# Altium schematic symbol library All Components.SchLib: 25 symbols
Pins are listed as number, name and electrical type; pins without a type are passive.

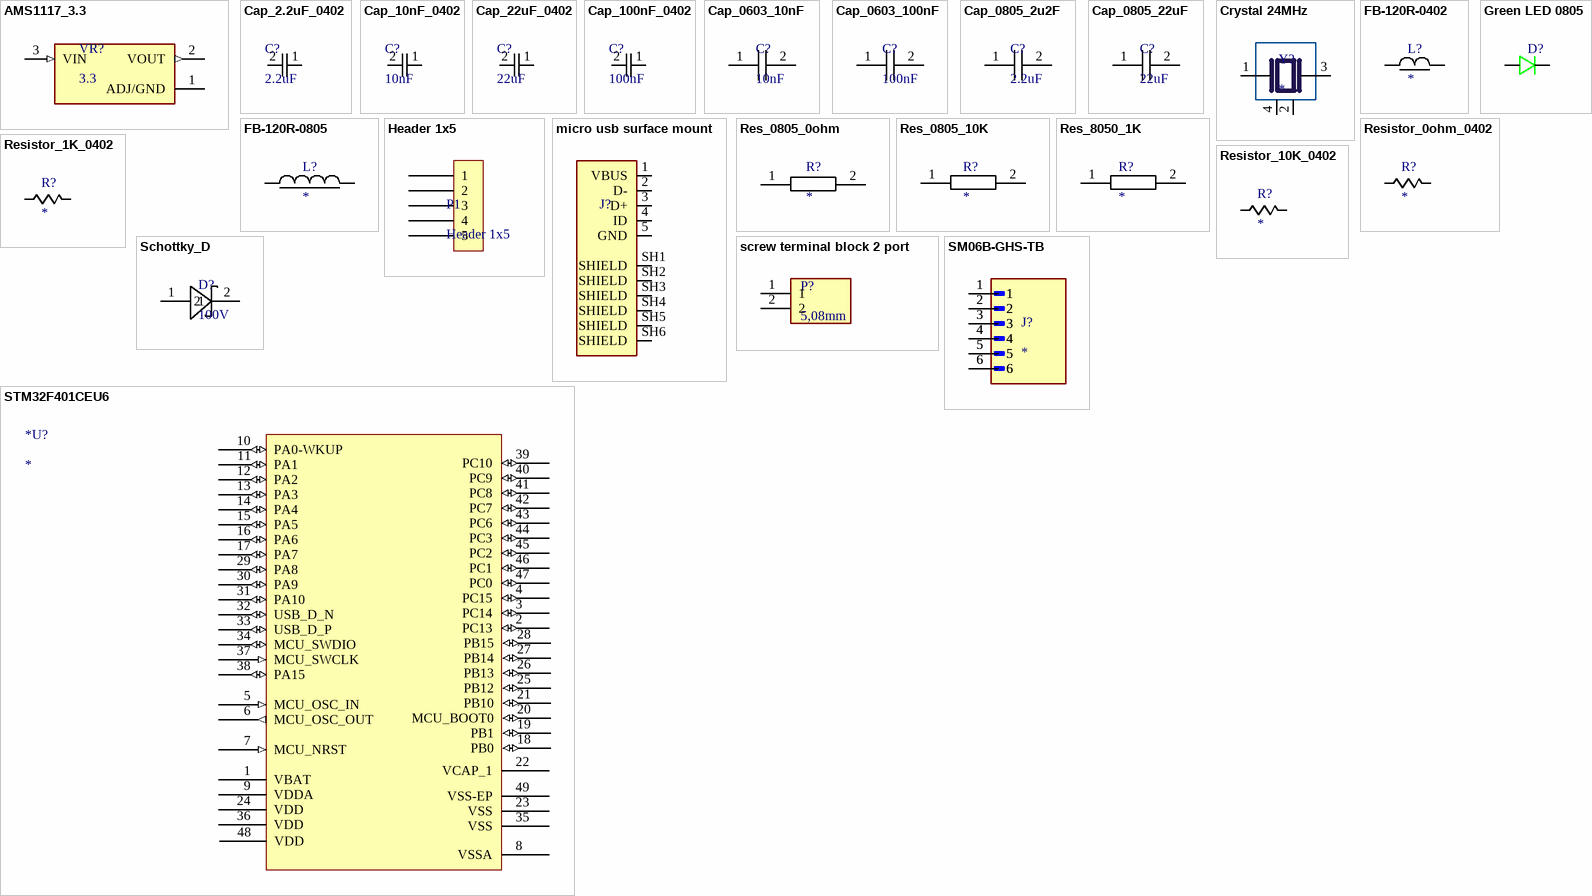
[diagram p0: symbols AMS1117_3.3 to STM32F401CEU6]

## AMS1117_3.3
designator VR?, comment 3.3
72dB@(120Hz) 1A Fixed 3.3V Positive 16V SOT-223 Voltage Regulators - Linear, Low Drop Out (LDO) Regulators ROHS; Manufacturer: Advanced Monolithic Systems; Mfr. Part #: AMS1117-3.3; Splr.part#: C6186; Supplier: LCSC; ComponentLink1Description: New link; ComponentLink1URL: https://www.lcsc.com/product-detail/C6186.html?s_z=n_ASM1117
footprint SOT229P700X180-4N
pins: 1 ADJ/GND (power), 2 VOUT (out), 3 VIN (in)

## Cap_2.2uF_0402
designator C?, comment 2.2uF
CAP CER 2.2uF 16V X5R 0402; Manufacturer: Samsung Electro-Mechanics; Manufacturer Part #: CL05A225KO5NQNC; Supplier: LCSC; Supplier Part#: C170151; ComponentLink1Description: Data Sheet; ComponentLink1URL: https://www.lcsc.com/datasheet/C170151.pdf?spm=wm.sxq.inf.ggs___wm.fly.bg.3.stp&lcsc_vid=T1MKV1cAE1gLBAVfTgIKUgJfTlkPBQBVQlMMBAJURwAxVlNeT1dfVlxVQ1ReXzsOAxUeFF5JWBYZEEoKFBINSQcJGk4%3D
footprint CAPC1005X55N
pins: 1, 2

## Cap_10nF_0402
designator C?, comment 10nF
CAP CER 10nF 50V X7R 0402; Manufacturer: Samsung Electro-Mechanics; Manufacturer Part #: CL05B103KB5NNNC; Supplier: LCSC; Supplier Part#: C15195; ComponentLink1Description: Data Sheet; ComponentLink1URL: https://www.lcsc.com/datasheet/C15195.pdf?spm=wm.sxq.inf.ggs___wm.fly.bg.2.stp&lcsc_vid=T1MKV1cAE1gLBAVfTgIKUgJfTlkPBQBVQlMMBAJURwAxVlNeT1dfVlxVQ1ReXzsOAxUeFF5JWBYZEEoKFBINSQcJGk4%3D
footprint CAPC1005X55N
pins: 1, 2

## Cap_22uF_0402
designator C?, comment 22uF
CAP CER 22uF 6.3V X5R 0402; Manufacturer: Samsung Electro-Mechanics; Manufacturer Part #: CL05A226MQ5QUNC; Supplier: LCSC; Supplier Part#: C105226; ComponentLink1Description: Data Sheet; ComponentLink1URL: https://www.lcsc.com/datasheet/C105226.pdf?spm=wm.sxq.inf.ggs___wm.fly.bg.3.stp&lcsc_vid=T1MKV1cAE1gLBAVfTgIKUgJfTlkPBQBVQlMMBAJURwAxVlNeT1dfVlxVQ1ReXzsOAxUeFF5JWBYZEEoKFBINSQcJGk4%3D
footprint CAPC1005X55N
pins: 1, 2

## Cap_100nF_0402
designator C?, comment 100nF
CAP CER 100nF 16V X7R 0402; Manufacturer: Samsung Electro-Mechanics; Manufacturer Part #: CL05B104KO5NNNC; Supplier: LCSC; Supplier Part#: C1525; ComponentLink1Description: Data Sheet; ComponentLink1URL: https://www.lcsc.com/datasheet/C1525.pdf?spm=wm.sxq.inf.ggs___wm.fly.bg.1.stp&lcsc_vid=T1MKV1cAE1gLBAVfTgIKUgJfTlkPBQBVQlMMBAJURwAxVlNeT1dfVlxVQ1ReXzsOAxUeFF5JWBYZEEoKFBINSQcJGk4%3D
footprint CAPC1005X55N
pins: 1, 2

## Cap_0603_10nF
designator C?, comment 10nF
CAP CER 10pF 50V C0G 0603; Manufacturer: Samsung Electro-Mechanics; Manufacturer Part#: CL10C100JB8NNNC; Supplier: LCSC; Supplier Part#: C1634; ComponentLink1Description: Data Sheet; ComponentLink1URL: https://www.lcsc.com/datasheet/C1634.pdf?spm=wm.sxq.inf.ggs___wm.fly.bg.0.stp&lcsc_vid=E1QPAlFSFlQNAwEAEQJdBlJfE1hWVlFUQlIPUgAERAIxVlNeQFNcV1NSTlNaUDsOAxUeFF5JWBYZEEoKFBINSQcJGk4%3D
footprint CAPC2012X140N
pins: 1, 2

## Cap_0603_100nF
designator C?, comment 100nF
CAP CER 100nF 50V X7R 0603; Manufacturer: Samsung Electro-Mechanics; Manufacturer Part#: CL10B104KB8NNNC; Supplier: LCSC; Supplier Part#: C1591; ComponentLink1Description: Data Sheet; ComponentLink1URL: https://www.lcsc.com/datasheet/C1591.pdf?spm=wm.sxq.inf.ggs___wm.fly.bg.4.stp&lcsc_vid=RlgPBF0EEVEPX1ZVRAVZVwcHRVJaBVJSTlNXAgBWFlkxVlNeQFFbX1RVRFRaVTsOAxUeFF5JWBYZEEoBGA4JCwFIFA4DSA%3D%3D
footprint CAPC2012X140N
pins: 1, 2

## Cap_0805_2u2F
designator C?, comment 2.2uF
CAP CER 2.2uF 16V X7R 0805; Manufacturer: Samsung Electro-Mechanics; Manufacturer Part#: CL21B225KOFNNNE; Supplier: LCSC; Supplier Part#: C28234; ComponentLink1Description: Data Sheet; ComponentLink1URL: https://www.lcsc.com/datasheet/C28234.pdf?spm=wm.sxq.inf.ggs___wm.fly.bg.7.stp&lcsc_vid=RlgPBF0EEVEPX1ZVRAVZVwcHRVJaBVJSTlNXAgBWFlkxVlNeQFFbX1RVRFRaVTsOAxUeFF5JWBYZEEoBGA4JCwFIFA4DSA%3D%3D
footprint CAPC2012X140N
pins: 1, 2

## Cap_0805_22uF
designator C?, comment 22uF
CAP CER 22uF 25V X5R 0805; Manufacturer: Samsung Electro-Mechanics; Manufacturer Part#: CL21A226MAYNNNE; Supplier: LCSC; Supplier Part#: C602037; ComponentLink1Description: Data Sheet; ComponentLink1URL: https://www.lcsc.com/datasheet/C602037.pdf?spm=wm.sxq.inf.ggs___wm.fly.bg.2.stp&lcsc_vid=EVYPBVRQTlZbUwYCRFgKAVAHE1INAl1VRwJdBFRRElcxVlNeQFNcU1JRTlFdXzsOAxUeFF5JWBYZEEoKFBINSQcJGk4dAgUUFAk%3D
footprint CAPC2012X140N
pins: 1, 2

## Crystal 24MHz
designator Y?
YXC Crystal Oscillators XL7EL89CKI-111YLC-24M; Manufacturer Part#: SMD2016-4P; Manufacturer: YXC Crystal Oscillators; Supplier: LCSC; Supplier Part#: C2965580; ComponentLink1Description: Data Sheet; ComponentLink1URL: https://www.lcsc.com/datasheet/C2965580.pdf?spm=wm.sxq.inf.ggs___wm.fly.bg.0.stp&lcsc_vid=EVYPBVRQTlZbUwYCRFgKAVAHE1INAl1VRwJdBFRRElcxVlNeQFNdUFxSTldXXjsOAxUeFF5JWBYZEEoKFBINSQcJGk4dAgUUFAk%3D
footprint XTAL_C7S-24.000-12-3030-X-R
pins: 1, 2 (power), 3 2, 4 (power)

## FB-120R-0402
designator L?
FERRITE BEAD 120Ω 0402; Manufacturer: KOHERelec; Manufacturer Part#: FBHA0402-121-202R; Supplier: LCSC; Supplier Part#: C41355350; ComponentLink1Description: Data Sheet; ComponentLink1URL: https://www.lcsc.com/datasheet/C41355350.pdf?spm=wm.sxq.inf.ggs___wm.fly.bg.5.stp&lcsc_vid=T1MKV1cAE1gLBAVfTgIKUgJfTlkPBQBVQlMMBAJURwAxVlNeT1dcVldXR1JYUjsOAxUeFF5JWBYZEEoKFBINSQcJGk4NBhADEA4cHktXRlZeSQwSGg0%3D
footprint RESC1005X40N
pins: 1, 2

## FB-120R-0805
designator L?
FERRITE BEAD 120Ω 0805 1LN; Manufacturer: ZE; Manufacturer Part#: ZECB201209A121-4A000; Supplier: LCSC; Supplier Part#: C2943443; ComponentLink1Description: Data Sheet; ComponentLink1URL: https://www.lcsc.com/datasheet/C2943443.pdf?spm=wm.sxq.inf.ggs___wm.fly.bg.0.stp&lcsc_vid=EVYPBVRQTlZbUwYCRFgKAVAHE1INAl1VRwJdBFRRElcxVlNeQFNcUldWRlRYVDsOAxUeFF5JWBYZEEoKFBINSQcJGk4NBhADEA4cHktXRllfSQwSGg0%3D
footprint RESC2012X06N (Chip Resistor, 2-Leads, Body 2.00x1.25mm, IPC Medium Density)
pins: 1, 2

## Green LED 0805
designator D?
LED GREEN 0805 SMD; Manufacturer: NATIONSTAR; Manufacturer Part#: NCD0805G1; Supplier: LCSC; Supplier Part#: C84260; ComponentLink1Description: Data Sheet; ComponentLink1URL: https://www.lcsc.com/datasheet/C84260.pdf?spm=wm.sxq.inf.ggs___wm.fly.bg.0.stp&lcsc_vid=FVIKU1JeEVJYVVVSQVdZUQJSQlYKVAJXRwQLV1VXQlYxVlNeQVdfUV1TQ1ReXzsOAxUeFF5JWBYZEEoKFBINSQcJGk4NBhADEA4cHktXRlVcSQwSGg0%3D
footprint LED_APT2012MGC
pins: A, C

## Header 1x5
designator P1
footprint Header 1x5 male (2.54mm)
pins: 1, 2, 3, 4, 5

## micro usb surface mount
designator J?
MICRO USB, TYPE B,; Manufacturer: HMTCONN; Manufacturer Part#: HMT-MICRO USB 4P; Supplier: LCSC; Supplier Part#: C53121381; ComponentLink1Description: Data Sheet; ComponentLink1URL: https://www.lcsc.com/datasheet/C53121381.pdf?spm=wm.sxq.inf.ggs___wm.ssy.bg.2.stp&lcsc_vid=RlgPBF0EEVEPX1ZVRAVZVwcHRVJaBVJSTlNXAgBWFlkxVlNeQFFbX1NTQ1dfVzsOAxUeFF5JWBYZEEoKFBINSQcJGk4eFQsCAgIaSgADAwAHC0slT1VdUFJIHxUDCw%3D%3D
footprint TE_1981568-1
pins: 1 VBUS, 2 D-, 3 D+, 4 ID, 5 GND, SH1 SHIELD, SH2 SHIELD, SH3 SHIELD, SH4 SHIELD, SH5 SHIELD, SH6 SHIELD

## Res_0805_0ohm
designator R?
RES 0Ω ±1% 125mW 0805; Manufacturer: UNI-ROYAL; Manufacturer Part#: 0805W8F0000T5E; Supplier: LCSC; Supplier Part#: C17477; ComponentLink1Description: Data sheet; ComponentLink1URL: https://www.lcsc.com/datasheet/C17477.pdf?spm=wm.sxq.inf.ggs___wm.fly.bg.9.stp&lcsc_vid=EVYPBVRQTlZbUwYCRFgKAVAHE1INAl1VRwJdBFRRElcxVlNeQFNcU1RTTlNXXzsOAxUeFF5JWBYZEEoKFBINSQcJGk4NBhADEA4cHktXRlhXSQwSGg0%3D
footprint RESC2012X06N (Chip Resistor, 2-Leads, Body 2.00x1.25mm, IPC Medium Density)
pins: 1, 2

## Res_0805_10K
designator R?
RES 10kΩ ±1% 125mW 0805LF; Manufacturer: YAGEO; Manufacturer Part#: RC0805FR-0710KL; Supplier: LCSC; Supplier Part#: C84376; ComponentLink1Description: Data sheet; ComponentLink1URL: https://www.lcsc.com/datasheet/C84376.pdf?spm=wm.sxq.inf.ggs___wm.fly.bg.3.stp&lcsc_vid=RlgPBF0EEVEPX1ZVRAVZVwcHRVJaBVJSTlNXAgBWFlkxVlNeQFFbX1FQRVZaXzsOAxUeFF5JWBYZEEoKFBINSQcJGk4eFQsCAgIaSgADAwAHC0slRVlcVFBIHxUDCw%3D%3D
footprint RESC2012X06N (Chip Resistor, 2-Leads, Body 2.00x1.25mm, IPC Medium Density)
pins: 1, 2

## Res_8050_1K
designator R?
RES 1kΩ ±1% 125mW 0805LF; Manufacturer: LCSC; Manufacturer Part#: QR0805F1K00P05Z; Supplier: LCSC; Supplier Part#: C176197; ComponentLink1Description: Data sheet; ComponentLink1URL: https://www.lcsc.com/datasheet/C176197.pdf?spm=wm.sxq.inf.ggs___wm.fly.bg.3.stp&lcsc_vid=FVIKU1JeEVJYVVVSQVdZUQJSQlYKVAJXRwQLV1VXQlYxVlNeQVdfVlRWT1BWUzsOAxUeFF5JWBYZEEoKFBINSQcJGk4dAgUUFAk%3D
footprint RESC2012X06N (Chip Resistor, 2-Leads, Body 2.00x1.25mm, IPC Medium Density)
pins: 1, 2

## Resistor_0ohm_0402
designator R?
RES 0Ω 0.1W 0402; Manufacturer: PANASONIC; Manufacturer Part #: ERJ2GE0R00X; Supplier: LCSC; Supplier Part #: C242160; ComponentLink1Description: Data Sheet; ComponentLink1URL: https://www.lcsc.com/datasheet/C242160.pdf?spm=wm.sxq.inf.ggs___wm.fly.bg.1.stp&lcsc_vid=T1MKV1cAE1gLBAVfTgIKUgJfTlkPBQBVQlMMBAJURwAxVlNeT1dcVF1TR1RYVzsOAxUeFF5JWBYZEEoKFBINSQcJGk4NBhADEA4cHktXRlhXSQwSGg0%3D
footprint RESC1005X40N
pins: 1, 2

## Resistor_1K_0402
designator R?
1kOhms Â±1% 0.063W, 1/16W Chip Resistor 0402 (1005 Metric) Moisture Resistant Thick Film; Manufacturer: FOJAN; Manufacturer Part #: RC0402FR-071KL; Supplier: LCSC; Supplier Part #: C106235; ComponentLink1Description: Data Sheet; ComponentLink1URL: https://www.lcsc.com/datasheet/C106235.pdf?spm=wm.sxq.inf.ggs___wm.fly.bg.2.stp&lcsc_vid=T1MKV1cAE1gLBAVfTgIKUgJfTlkPBQBVQlMMBAJURwAxVlNeT1dcVlJVRFlZVzsOAxUeFF5JWBYZEEoKFBINSQcJGk4NBhADEA4cHktXRlhXSQwSGg0%3D
footprint RESC1005X40N
pins: 1, 2

## Resistor_10K_0402
designator R?
RES 10kΩ ±1% 62.5mW 0402; Manufacturer: YAGEO; Manufacturer Part #: RC0402FR-0710KL; Supplier: LCSC; Supplier Part #: C60490; ComponentLink1Description: Data Sheet; ComponentLink1URL: https://www.lcsc.com/datasheet/C60490.pdf?spm=wm.sxq.inf.ggs___wm.fly.bg.1.stp&lcsc_vid=T1MKV1cAE1gLBAVfTgIKUgJfTlkPBQBVQlMMBAJURwAxVlNeT1dcVVBSRVlfUDsOAxUeFF5JWBYZEEoKFBINSQcJGk4NBhADEA4cHktXRlhXSQwSGg0%3D
footprint RESC1005X40N
pins: 1, 2

## Schottky_D
designator D?, comment 100V
100V 850mV@5A 5A SMAG Schottky Diodes ROHS; Manufacturer: Nexperia; Mfr. Part #: BAT54S,215; Splr.part#: C466506; Supplier: LCSC; ComponentLink1Description: New link; ComponentLink1URL: https://www.lcsc.com/product-detail/C466506.html?s_z=n_schottky%2520diode
footprint Schottky.D
pins: 1, 2

## screw terminal block 2 port
designator P?, comment 5,08mm
1x2P 18A -40℃~+105℃ 250V Green 14~30 Through Hole 5.08mm 2.5 1 2 Through Hole,P=5.08mm Screw Terminal Blocks ROHS; Manufacturer: KANGNEX; Mfr. Part #: WJ500V-5.08-2P; Splr.part#: C8465; Supplier: LCSC; ComponentLink1Description: New link; ComponentLink1URL: https://www.lcsc.com/product-detail/C8465.html
footprint Screw_terminal_block_5.0
pins: 1, 2

## SM06B-GHS-TB
designator J?
Connector Header Surface Mount, Right Angle 6 position 0.049 (1.25mm); Manufacturer: JST; Manufacturer Part#: SM06B-GHS-TB(LF)(SN); Supplier: LCSC; Supplier Part#: C133065; ComponentLink1Description: Data Sheet; ComponentLink1URL: https://www.lcsc.com/datasheet/C133065.pdf?spm=wm.sxq.inf.ggs___wm.fly.bg.2.stp&lcsc_vid=RlgPBF0EEVEPX1ZVRAVZVwcHRVJaBVJSTlNXAgBWFlkxVlNeQFFbXlFTQ1lWVDsOAxUeFF5JWBYZEEoKFBINSQcJGk4NBhADEA4cHktSTlRADxALGw%3D%3D
footprint JST_SM06B-GHS-TB
pins: 1, 1, 2, 2, 3, 3, 4, 4, 5, 5, 6, 6

## STM32F401CEU6
designator *U?
ARM Cortex-M4 32b MCU+FPU,105DMIPS,512KB Flash/96KB RAM, 11 TIMs, 1 ADC, 11 comm. interfaces; Manufacturer: ST; Manufacturer Part#: STM32F401CEU6; Supplier: LCSC; Supplier Part#: C60420; ComponentLink1Description: Data Sheet; ComponentLink1URL: https://www.lcsc.com/datasheet/C60420.pdf?spm=wm.sxq.inf.ggs___wm.fly.bg.0.stp&lcsc_vid=E1QPAlFSFlQNAwEAEQJdBlJfE1hWVlFUQlIPUgAERAIxVlNeQFNcV1NSTlNaUDsOAxUeFF5JWBYZEEoKFBINSQcJGk4%3D
footprint UFQFPN-48_7x7mm_P0.5mm (QFN, 48-Leads, Body 7.00x7.00mm, Pitch 0.50mm, Thermal Pad 5.60x5.60mm, IPC Medium Density)
pins: 1 VBAT (power), 2 PC13 (io), 3 PC14 (io), 4 PC15 (io), 5 MCU_OSC_IN (in), 6 MCU_OSC_OUT (out), 7 MCU_NRST (in), 8 VSSA (power), 9 VDDA (power), 10 PA0-WKUP (io), 11 PA1 (io), 12 PA2 (io), 13 PA3 (io), 14 PA4 (io), 15 PA5 (io), 16 PA6 (io), 17 PA7 (io), 18 PB0 (io), 19 PB1 (io), 20 MCU_BOOT0 (io), 21 PB10 (io), 22 VCAP_1 (power), 23 VSS (power), 24 VDD (power), 25 PB12 (io), 26 PB13 (io), 27 PB14 (io), 28 PB15 (io), 29 PA8 (io), 30 PA9 (io), 31 PA10 (io), 32 USB_D_N (io), 33 USB_D_P (io), 34 MCU_SWDIO (io), 35 VSS (power), 36 VDD (power), 37 MCU_SWCLK (in), 38 PA15 (io), 39 PC10 (io), 40 PC9 (io), 41 PC8 (io), 42 PC7 (io), 43 PC6 (io), 44 PC3 (io), 45 PC2 (io), 46 PC1 (io), 47 PC0 (io), 48 VDD (power), 49 VSS-EP (power)